# EAGLE library part HIROSE-DF40C-10DP-0.4V (library connectors)
DF40 Series Header - 0.4MM Pitch
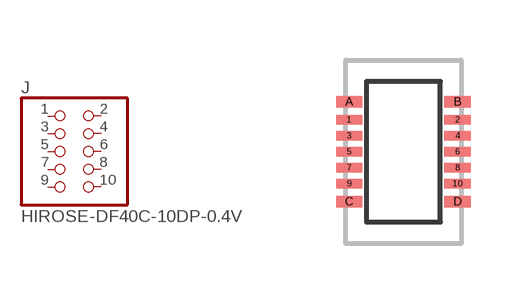
[diagram p1: symbol with the pads of 2X5/SMD/0.4MM; footprint 2X5/SMD/0.4MM]

Designator prefix J

## HIROSE-DF40C-10DP-0.4V (DIGIKEY: H11616CT-ND; MOUSER: 798-DF40C10DP0.4V51; NEWARK: 68X2585)  [2X5/SMD/0.4MM]
1  1  pas
2  2  pas
3  3  pas
4  4  pas
5  5  pas
6  6  pas
7  7  pas
8  8  pas
9  9  pas
10  10  pas

## Footprint 2X5/SMD/0.4MM (pad centres in mm)
smd 0.66 x 0.23: 1 -1.355,0.8; 2 1.355,0.8; 3 -1.355,0.4; 4 1.355,0.4; 5 -1.355,0; 6 1.355,0; 7 -1.355,-0.4; 8 1.355,-0.4; 9 -1.355,-0.8; 10 1.355,-0.8
smd 0.66 x 0.3: A -1.355,1.25; B 1.355,1.25; C -1.355,-1.25; D 1.355,-1.25